# Altium schematic symbol library 5_CPU_TF卡.schdoc.SCHLIB: 22 symbols
Pins are listed as number, name and electrical type; pins without a type are passive.

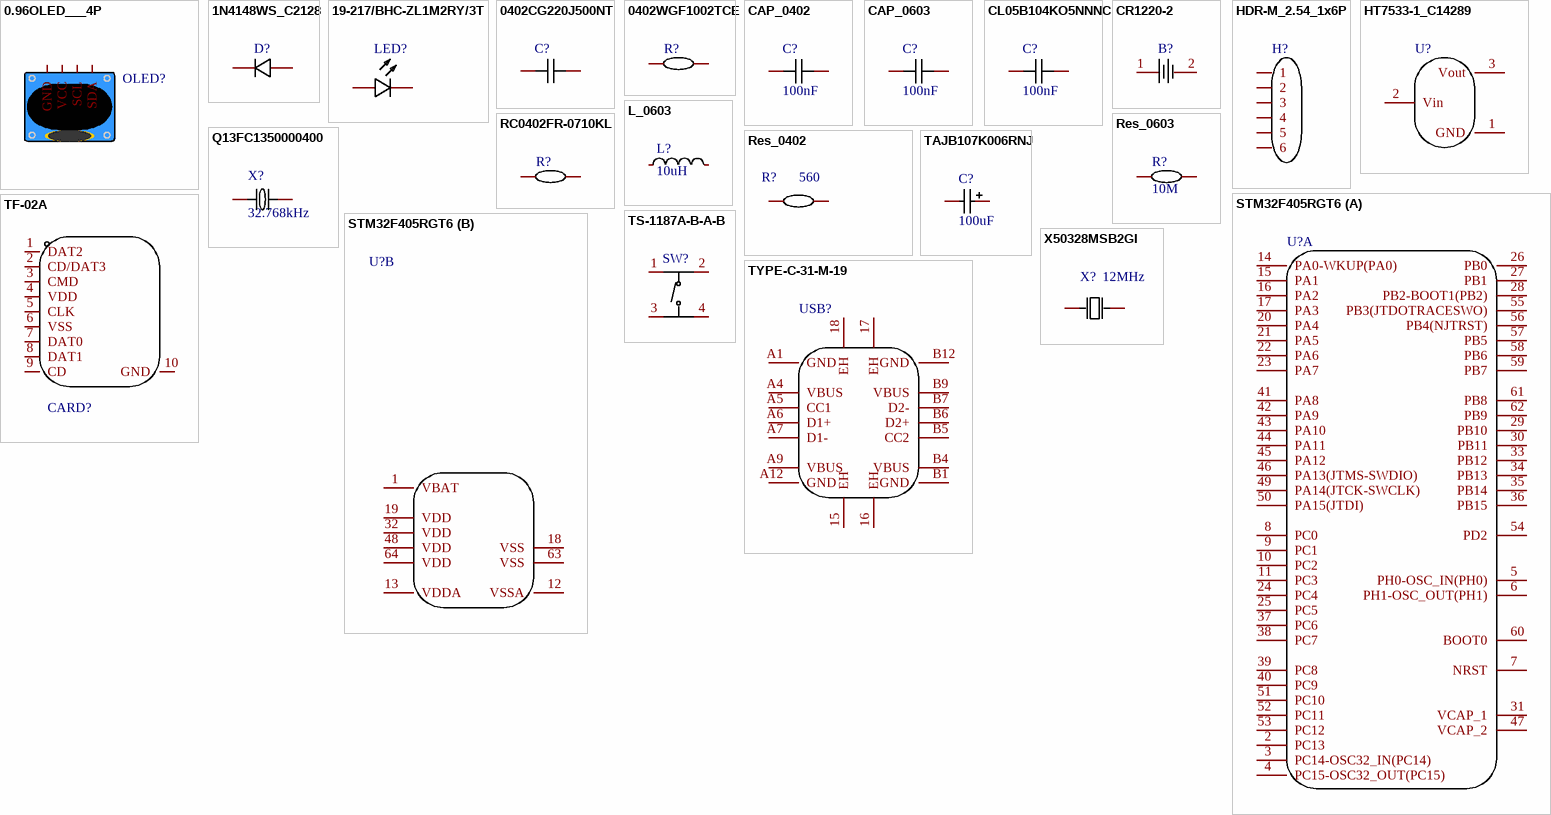
[diagram p0: symbols 0.96OLED___4P to X50328MSB2GI]

## 0.96OLED___4P
designator OLED?
Convert to PCB: yes; Add into BOM: yes
footprint 0.96OLED_4P
3D model 0.96OLED_4P
pins: 1 GND, 2 VCC, 3 SCL, 4 SDA

## 1N4148WS_C2128
designator D?, comment 1N4148WS  (value not drawn)
Symbol: 1N4148WS T4; Device: 1N4148WS_C2128; Add into BOM: yes; Power Dissipation: 200mW; Reverse Voltage (Vr): 100V; Average Rectified Current (Io): 150mA; Forward Voltage (Vf@If): 1.25V@150mA; Reverse Recovery Time (trr): 4ns; LCSC Part Name: Vr=100V Io=150mA trr=4ns T4; Supplier Part: C2128; Manufacturer Part: 1N4148WS; Supplier Footprint: SOD-323; JLCPCB Part Class: Basic Part; Datasheet: https://atta.szlcsc.com/upload/public/pdf/source/20140809/1457707208178.pdf; Supplier: LCSC; Convert to PCB: yes; Name: 1N4148WS
footprint SOD-323_L1.8-W1.3-LS2.5-RD
3D model SOD-323_L1.7-W1.3-H1.1-LS2.5
pins: 1 K, 2 A

## 19-217/BHC-ZL1M2RY/3T
designator LED?  (value not drawn)
Add into BOM: yes; Luminous Intensity (IF=20mA): 11.5~28.5mcd@5mA; Dominant Wavelength / Coordinate rank: 465~475nm; Symbol: 19-217/BHC-ZL1M2RY/3T; Device: 19-217/BHC-ZL1M2RY/3T; Supplier Part: C72041; Manufacturer Part: 19-217/BHC-ZL1M2RY/3T; Supplier Footprint: 0603; JLCPCB Part Class: Basic Part; Datasheet: https://atta.szlcsc.com/upload/public/pdf/source/20170116/1484561237273.pdf; Supplier: LCSC; Convert to PCB: yes; Name: 19-217/BHC-ZL1M2RY/3T
footprint LED0603-R-RD
3D model LED0603-R-RD
pins: 1 A, 2 C

## 0402CG220J500NT
designator C?, comment 22pF  (value not drawn)
Symbol: CapAcitance; Device: 0402CG220J500NT; Add into BOM: yes; Voltage Rated: 50V; Temperature Coefficient: C0G; Supplier Part: C1555; Manufacturer Part: 0402CG220J500NT; Supplier Footprint: 0402; JLCPCB Part Class: Basic Part; Datasheet: https://atta.szlcsc.com/upload/public/pdf/source/20170923/C1555_1506149269156988362.pdf; Supplier: LCSC; Convert to PCB: yes; Value: 22pF; Name: 22pF
footprint 0402C
3D model C0402_L1.0-W0.5-H0.5
pins: 1, 2

## 0402WGF1002TCE
designator R?
Device: 0402WGF1002TCE; Add into BOM: yes; Power(Watts): 1/16W; Overload Voltage (Max): 50V; Supplier Part: C25744; Manufacturer Part: 0402WGF1002TCE; Supplier Footprint: 0402; JLCPCB Part Class: Basic Part; Datasheet: https://atta.szlcsc.com/upload/public/pdf/source/20170920/C25744_1505901522148983320.pdf; Supplier: LCSC; Convert to PCB: yes
footprint 0402C
3D model R0402_L1.0-W0.5-H0.5
pins: 1, 2

## CAP_0402
designator C?, comment 100nF
Symbol: CapAcitance; Device: CAP_0402; Convert to PCB: yes; Add into BOM: yes; Supplier Footprint: 0402; Value: 100nF; Name: 100nF
footprint 0402C
3D model C0402_L1.0-W0.5-H0.5
pins: 1, 2

## CAP_0603
designator C?, comment 100nF
Symbol: CapAcitance; Device: CAP_0603; Convert to PCB: yes; Add into BOM: yes; Supplier Footprint: 0603; Value: 100nF; Name: 100nF
footprint 0603C
3D model C0603_L1.6-W0.8-H0.8
pins: 1, 2

## CL05B104KO5NNNC
designator C?, comment 100nF
Symbol: CapAcitance; Device: CL05B104KO5NNNC; Add into BOM: yes; Temperature Coefficient: X7R; Voltage Rated: 16V; Supplier Part: C1525; Manufacturer Part: CL05B104KO5NNNC; Supplier Footprint: 0402; JLCPCB Part Class: Basic Part; Datasheet: https://atta.szlcsc.com/upload/public/pdf/source/20160103/1457707674891.pdf; Supplier: LCSC; Convert to PCB: yes; Value: 100nF; Name: 100nF
footprint 0402C
3D model C0402_L1.0-W0.5-H0.5
pins: 1, 2

## CR1220-2
designator B?  (value not drawn)
Manufacturer: Q&J; Add into BOM: yes; Battery Type: CR1220; Symbol: CR1220-2; Device: CR1220-2; Supplier Part: C70381; Manufacturer Part: CR1220-2; Supplier Footprint: SMD; JLCPCB Part Class: Extended Part; Datasheet: https://atta.szlcsc.com/upload/public/pdf/source/20160427/1461725216696.pdf; Supplier: LCSC; Convert to PCB: yes; Operating Temperature Range: -; Name: CR1220-2
footprint BAT-SMD_CR1220-2
3D model BAT-SMD_CR1220-2
pins: 1, 2

## HDR-M_2.54_1x6P
designator H?  (value not drawn)
Symbol: Header-Male-2.54_1x6; Convert to PCB: yes; Device: HDR-M_2.54_1x6P; Add into BOM: yes; Supplier Part: C37208
footprint HDR-TH_6P-P2.54-V-M-1
3D model HDR2.54-M-LI-1X6P
pins: 1, 2, 3, 4, 5, 6

## HT7533-1_C14289
designator U?, comment HT7533-1  (value not drawn)
Symbol: HT7533-1_C14289; Add into BOM: yes; Number of Outputs: 1; Maximum Input Voltage: 30V; Output Voltage: 3.3V; Dropout Voltage: 55mV@(1mA); Output Current: 100mA; Device: HT7533-1_C14289; Supplier Part: C14289; Manufacturer Part: HT7533-1; Supplier Footprint: SOT-89-3; JLCPCB Part Class: Basic Part; Datasheet: https://atta.szlcsc.com/upload/public/pdf/source/20181207/C14289_D78E082B35DEDE5490CAD08F2F04979D.pdf; Supplier: LCSC; Convert to PCB: yes; Quiescent Current (Ground Current): -; Power Supply Rejection Ratio (PSRR): -; Name: HT7533-1
footprint SOT-89-3_L4.5-W2.5-P1.50-LS4.2-BR
3D model SOT-89-3_L4.3-W2.5-H1.6-LS4.1-P1.50
pins: 1 GND, 2 Vin, 3 Vout

## L_0603
designator L?, comment 10uH
Symbol: SDFL1608S100KTF; Device: L_0603; Add into BOM: yes; Supplier Footprint: L0603; Convert to PCB: yes; Value: 10uH; Name: 10uH
footprint L0603
3D model L0603_L1.6-W0.8-H0.5_BEAD
pins: 1, 2

## Q13FC1350000400
designator X?, comment 32.768kHz
Symbol: Q13FC1350000400; Add into BOM: yes; Load Capacitance: 12.5pF; Device: Q13FC1350000400; Supplier Part: C32346; Manufacturer Part: Q13FC1350000400; Supplier Footprint: SMD3215-2P; JLCPCB Part Class: Basic Part; Datasheet: https://atta.szlcsc.com/upload/public/pdf/source/20190108/C32346_746D6B07EAF90824457A96480007685F.pdf; Supplier: LCSC; Convert to PCB: yes; Value: 32.768kHz; Name: 32.768kHz
footprint FC-135R_L3.2-W1.5
3D model SMD-3215_2P_L3.2-W1.5-H0.8
pins: 1, 2

## RC0402FR-0710KL
designator R?
Device: RC0402FR-0710KL; Add into BOM: yes; Power(Watts): 62.5mW; Overload Voltage (Max): 50V; Supplier Part: C60490; Manufacturer Part: RC0402FR-0710KL; Supplier Footprint: 0402; JLCPCB Part Class: Extended Part; Datasheet: https://atta.szlcsc.com/upload/public/pdf/source/20170606/1496716515432.pdf; Supplier: LCSC; Convert to PCB: yes
footprint 0402C
3D model R0402_L1.0-W0.5-H0.5
pins: 1, 2

## Res_0402
designator R?, comment 560
Device: Res_0402; Convert to PCB: yes; Add into BOM: yes; Supplier Footprint: 0402; Value: 560; Name: 560
footprint 0402C
3D model R0402_L1.0-W0.5-H0.5
pins: 1, 2

## Res_0603
designator R?, comment 10M
Device: Res_0603; Convert to PCB: yes; Add into BOM: yes; Supplier Footprint: 0603; Value: 10M; Name: 10M
footprint 0603C
3D model R0603
pins: 1, 2

## STM32F405RGT6
designator U?  (value not drawn)
Add into BOM: yes; CPU Core: ARM Cortex-M4; Maximum Frequency: 168MHz; Supply Voltage Range: 1.8V~3.6V; Program FLASH Size: 1MB; RAM Size: 192KB; GPIO Ports Number: 51; ADC (Units/Channels/bits): 1@x16ch/12bit; DAC (Units/Channels/bits): 1@x2ch/12bit; Symbol: STM32F405RGT6; Device: STM32F405RGT6; Supplier Part: C15742; Manufacturer Part: STM32F405RGT6; Supplier Footprint: LQFP-64(10x10); JLCPCB Part Class: Extended Part; Datasheet: https://atta.szlcsc.com/upload/public/pdf/source/20140724/1457707160365.pdf; Supplier: LCSC; Convert to PCB: yes; EEPROM/Data FLASH Size: -; Name: STM32F405RGT6
footprint LQFP-64_L10.0-W10.0-P0.50-LS12.0-BL
3D model LQFP-64_L10.0-W10.0-H1.4-LS12.0-P0.50
part A pins: 2 PC13, 3 PC14-OSC32_IN(PC14), 4 PC15-OSC32_OUT(PC15), 5 PH0-OSC_IN(PH0), 6 PH1-OSC_OUT(PH1), 7 NRST, 8 PC0, 9 PC1, 10 PC2, 11 PC3, 14 PA0-WKUP(PA0), 15 PA1, 16 PA2, 17 PA3, 20 PA4, 21 PA5, 22 PA6, 23 PA7, 24 PC4, 25 PC5, 26 PB0, 27 PB1, 28 PB2-BOOT1(PB2), 29 PB10, 30 PB11, 31 VCAP_1, 33 PB12, 34 PB13, 35 PB14, 36 PB15, 37 PC6, 38 PC7, 39 PC8, 40 PC9, 41 PA8, 42 PA9, 43 PA10, 44 PA11, 45 PA12, 46 PA13(JTMS-SWDIO), 47 VCAP_2, 49 PA14(JTCK-SWCLK), 50 PA15(JTDI), 51 PC10, 52 PC11, 53 PC12, 54 PD2, 55 PB3(JTDOTRACESWO), 56 PB4(NJTRST), 57 PB5, 58 PB6, 59 PB7, 60 BOOT0, 61 PB8, 62 PB9
part B pins: 1 VBAT, 12 VSSA, 13 VDDA, 18 VSS, 19 VDD, 32 VDD, 48 VDD, 63 VSS, 64 VDD

## TAJB107K006RNJ
designator C?, comment 100uF
Manufacturer: AVX; Symbol: TAJB107K006RNJ; Add into BOM: yes; Rated Voltage: 6.3V; Device: TAJB107K006RNJ; Supplier Part: C16133; Manufacturer Part: TAJB107K006RNJ; Supplier Footprint: CASE-B_3528; JLCPCB Part Class: Basic Part; Datasheet: https://atta.szlcsc.com/upload/public/pdf/source/20160107/1457707745432.pdf; Supplier: LCSC; Convert to PCB: yes; Value: 100uF; Name: 100uF
footprint CAP-SMD_L3.5-W2.8
3D model CASE-B_L3.5-W2.8-H1.9
pins: 1, 2

## TF-02A
designator CARD?  (value not drawn)
Symbol: TF-02A_C2889261; Add into BOM: yes; Maximum Body Height: 2mm; Device: TF-02A; Supplier Part: C2889261; Manufacturer Part: TF-02A; Supplier Footprint: SMD; JLCPCB Part Class: Extended Part; Datasheet: https://atta.szlcsc.com/upload/public/pdf/source/20210830/024A9A7E12D3087F16F1466156B6A08F.pdf; Supplier: LCSC; Convert to PCB: yes; Operating Temperature Range: -; Name: TF-02A
footprint TF-SMD_TF-02
3D model TF-SMD_TF-02
pins: 1 DAT2, 2 CD/DAT3, 3 CMD, 4 VDD, 5 CLK, 6 VSS, 7 DAT0, 8 DAT1, 9 CD, 10 GND

## TS-1187A-B-A-B
designator SW?  (value not drawn)
Add into BOM: yes; Contact Current: 50mA; Voltage Rating (DC): 12V; Operating Force: 160gf; Mechanical Life: 100000; Switch Length: 5.1mm; Switch Height: 1.5mm; Symbol: TS-1187A-B-A-B; Device: TS-1187A-B-A-B; Supplier Part: C318884; Manufacturer Part: TS-1187A-B-A-B; Supplier Footprint: SMD; JLCPCB Part Class: Basic Part; Datasheet: https://atta.szlcsc.com/upload/public/pdf/source/20200227/C318884_1F20165719E1C4CAA3E10C4C359C6E26.pdf; Supplier: LCSC; Convert to PCB: yes; Switch Width: 5.1mm; Name: TS-1187A-B-A-B
footprint SW-SMD_4P-L5.1-W5.1-P3.70-LS6.5-TL-2
3D model SW-SMD_4P-L5.2-W5.2-H1.5-LS6.4-P3.70
pins: 1 A, 2 B, 3 C, 4 D

## TYPE-C-31-M-19
designator USB?  (value not drawn)
Add into BOM: yes; Symbol: TYPE-C-31-M-19; Device: TYPE-C-31-M-19; LCSC Part Name: TYPE-C USB; Supplier Part: C2689968; Manufacturer Part: TYPE-C-31-M-19; JLCPCB Part Class: Extended Part; Datasheet: https://atta.szlcsc.com/upload/public/pdf/source/20210810/9ED215E0C1694DF294227CDFBEA92511.pdf; Supplier: LCSC; Convert to PCB: yes; Name: TYPE-C-31-M-19
footprint USB-C-TH_TYPE-C-31-M-19
3D model USB-C-TH_TYPE-C-31-M-19
pins: 15 EH, 16 EH, 17 EH, 18 EH, A1 GND, A4 VBUS, A5 CC1, A6 D1+, A7 D1-, A9 VBUS, A12 GND, B1 GND, B4 VBUS, B5 CC2, B6 D2+, B7 D2-, B9 VBUS, B12 GND

## X50328MSB2GI
designator X?, comment 12MHz
Symbol: X50328MSB2GI; Add into BOM: yes; Load Capacitance: 20pF; Device: X50328MSB2GI; Supplier Part: C115962; Manufacturer Part: X50328MSB2GI; Supplier Footprint: SMD5032-2P; JLCPCB Part Class: Basic Part; Datasheet: https://atta.szlcsc.com/upload/public/pdf/source/20230220/0EBFFB9D6D8CE6A211407822BBB6C516.pdf; Supplier: LCSC; Convert to PCB: yes; Value: 12MHz; Name: 12MHz
footprint CRYSTAL-SMD_L5.0-W3.2
3D model CRYSTAL-SMD_L5.0-W3.2
pins: 1 OSC1, 2 OSC2